# Altium footprint library diode.PCBLIB: 211 footprints (part 13 of 14)
Each footprint in its own frame and in the unit in brackets; x right, y up, seen from the top. Pads: shape width x height; smd on the part's side, far side on the other; paste and mask are expansions set on the pad; w line width, h text height; cw(c..) or ccw(c..) is an arc to the next point about the centre after c.
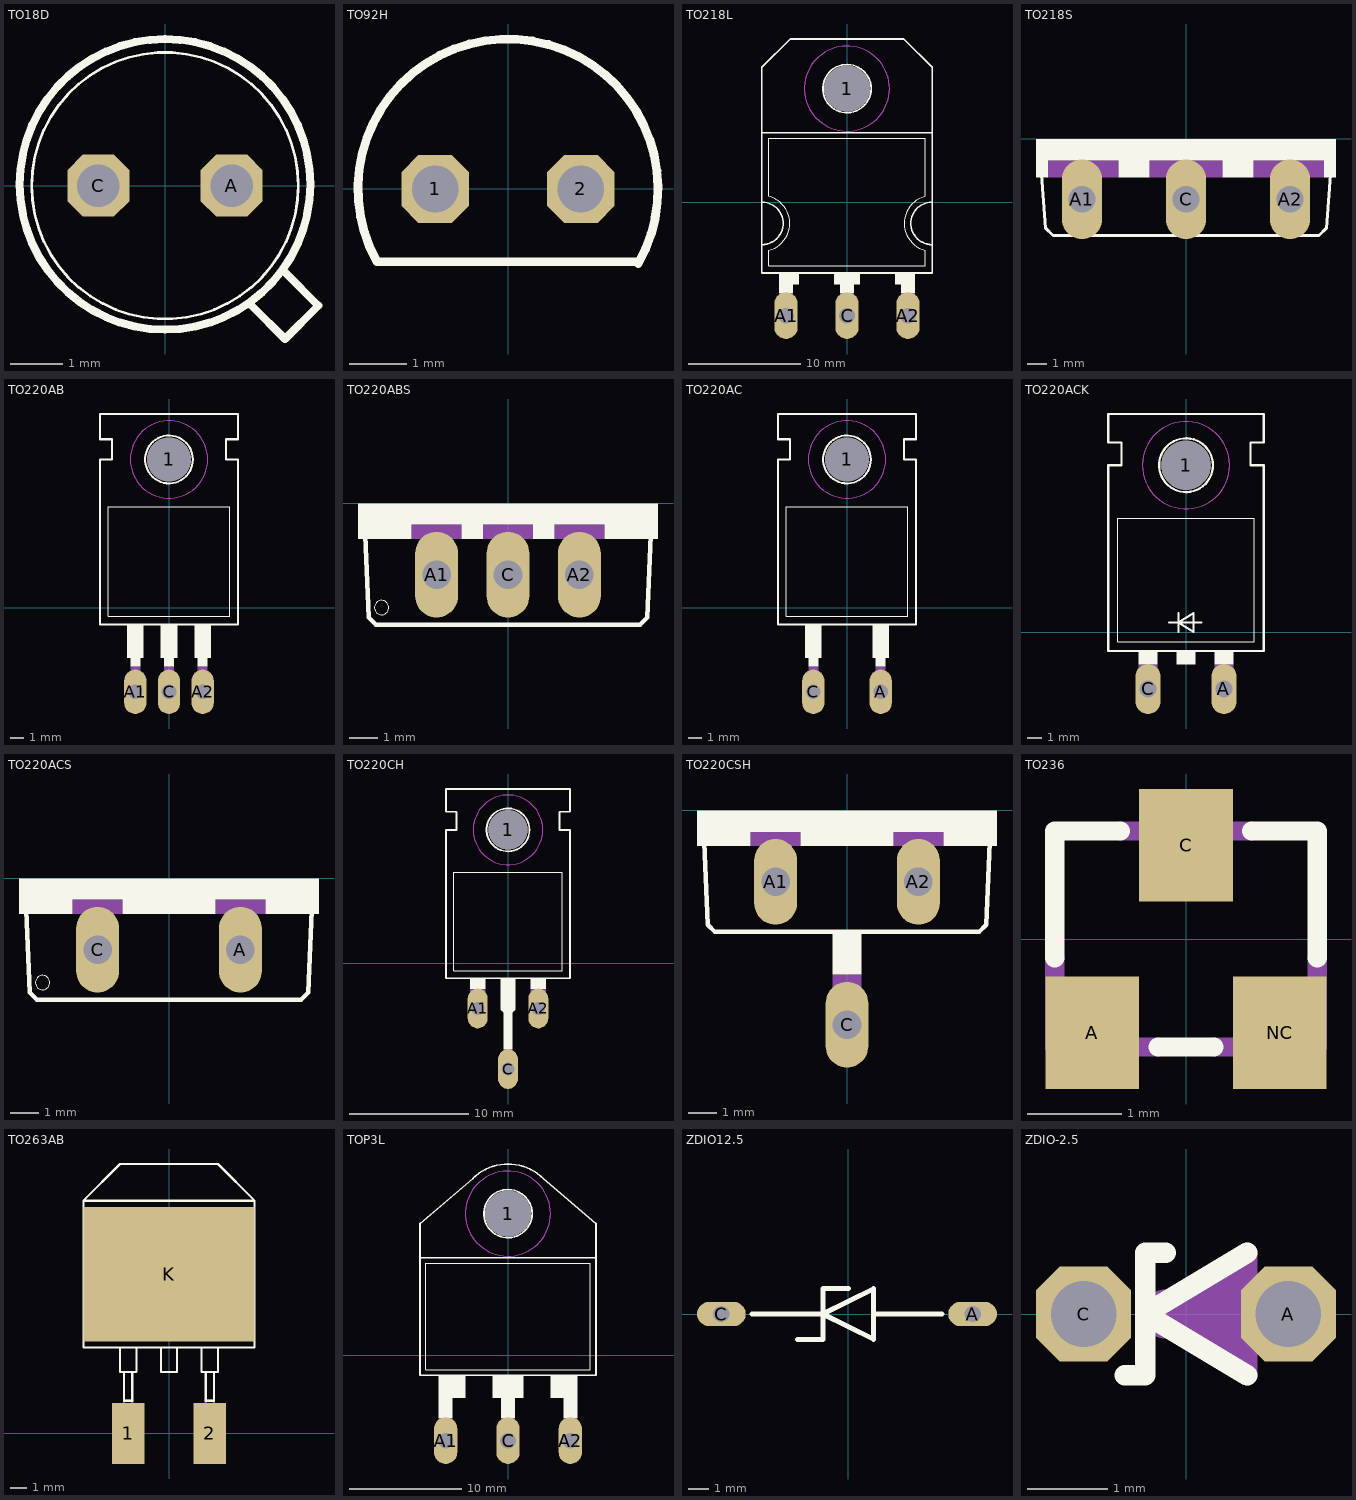
[diagram p12: the footprints below, top view; thin cyan lines are the x and y axes]

## TO18D [mil]
pads (2):
  oct 46.48x46.48 hole 32: A(50,0) C(-50,0)
Top Overlay:
  circle w2: c0,0 r100
  circle w6: c0,1 r109
  lines w6: 65,-90 90,-115 115,-90 90,-65

## TO92H [mil]
pads (2):
  oct 46.48x46.48 hole 32: 1(-50,0) 2(50,0)
Top Overlay:
  lines w6: 89.39,-51.08 ccw(c0,0) -90,-50 90,-50

## TO218L [mil]
pads (4):
  round 162 hole 162: 1(0,400)
  oval 82.5x165 hole 55: A1(-215,-400) A2(215,-400) C(0,-400)
Top Overlay:
  circle w6: c0,400 r85
  rectangle: -240,-290 -170,-250
  rectangle: 170,-290 240,-250
  rectangle: -45,-290 45,-250
  rectangle: -240,-320 -190,-250
  rectangle: -25,-320 25,-250
  rectangle: 190,-320 240,-250
  lines w2: 273.71,19.65 ccw(c300,-75) 275,-169.99 275,-225 -275,-225 -275,-170 ccw(c-300,-75) -275,20 -275,225 275,225 275,20
  lines w6: -300,-150 ccw(c-300,-75) -300,0 ; -300,-150 -300,-250 300,-250 300,-150 ; -300,-150 -300,0 ; -300,0 -300,245 ; -300,245 300,245 ; -300,245 -300,475 -200,575 200,575 300,475 300,245 ; 300,-150 cw(c300,-75) 300,0 ; 300,-150 300,0 ; 300,0 300,245
Mechanical 4:
  rectangle: -240,-405 -190,-320
  rectangle: -25,-405 25,-320
  rectangle: 190,-405 240,-320
Mechanical 11 keep-out:
  circle w0: c0,400 r150
Mechanical 12:
  circle w0: c0,400 r150

## TO218S [mil]
pads (3):
  oval 82.5x165 hole 55: A1(-215,-125) A2(215,-125) C(0,-125)
Top Overlay:
  rectangle: 285,-80 310,-45
  rectangle: -310,-80 -285,-45
  rectangle: 75,-80 140,-45
  rectangle: -140,-80 -75,-45
  rectangle: -310,-45 310,0
  lines w6: -300,-60 -290,-185 -275,-200 275,-200 290,-185 300,-60
Mechanical 4:
  rectangle: -75,-80 75,-45
  rectangle: -285,-80 -140,-45
  rectangle: 140,-80 285,-45

## TO220AB [mil]
pads (4):
  round 130 hole 130: 1(0,440)
  oval 66x132 hole 44: A1(-100,-250) A2(100,-250) C(0,-250)
Top Overlay:
  circle w6: c0,440 r71
  rectangle: 75,-150 125,-50
  rectangle: -25,-150 25,-50
  rectangle: -125,-150 -75,-50
  rectangle: -115,-175 -85,-150
  rectangle: -15,-175 15,-150
  rectangle: 85,-175 115,-150
  lines w2: -180,-25 -180,300 180,300 180,-25 -180,-25
  lines w6: -205,-50 -205,440 -170,440 -170,500 -205,500 -205,575 205,575 205,500 170,500 170,440 205,440 205,-50 -205,-50
Mechanical 4:
  rectangle: -115,-250 -85,-175
  rectangle: -15,-250 15,-175
  rectangle: 85,-250 115,-175
Mechanical 11 keep-out:
  circle w0: c0,440 r115
Mechanical 12:
  circle w0: c0,440 r115

## TO220ABS [mil]
pads (3):
  oval 60x120 hole 40: A1(-100,-100) A2(100,-100) C(0,-100)
Top Overlay:
  circle w0: c-177,-146 r10
  rectangle: 135,-50 210,-30
  rectangle: 35,-50 65,-30
  rectangle: -65,-50 -35,-30
  rectangle: -210,-50 -135,-30
  rectangle: -210,-30 210,0
  lines w6: -200,-45 -195,-160 -185,-170 185,-170 195,-160 200,-45
Mechanical 4:
  rectangle: 65,-50 135,-30
  rectangle: -35,-50 35,-30
  rectangle: -135,-50 -65,-30

## TO220AC [mil]
pads (3):
  round 130 hole 130: 1(0,440)
  oval 66x132 hole 44: A(100,-250) C(-100,-250)
Top Overlay:
  circle w6: c0,440 r71
  rectangle: 75,-150 125,-50
  rectangle: -125,-150 -75,-50
  rectangle: -115,-175 -85,-150
  rectangle: 85,-175 115,-150
  lines w2: -180,-25 -180,300 180,300 180,-25 -180,-25
  lines w6: -205,-50 -205,440 -170,440 -170,500 -205,500 -205,575 205,575 205,500 170,500 170,440 205,440 205,-50 -205,-50
Mechanical 4:
  rectangle: -115,-250 -85,-175
  rectangle: 85,-250 115,-175
Mechanical 11 keep-out:
  circle w0: c0,440 r115
Mechanical 12:
  circle w0: c0,440 r115

## TO220ACK [mil]
pads (3):
  round 130 hole 130: 1(0,440)
  oval 66x132 hole 44: A(100,-150) C(-100,-150)
Top Overlay:
  circle w6: c0,440 r71
  rectangle: -125,-85 -75,-50
  rectangle: 75,-85 125,-50
  rectangle: -25,-85 25,-50
  lines w2: -180,-25 180,-25 180,300 -180,300 -180,-25
  lines w6: -45,25 -20,25 ; -20,0 -20,25 ; -20,50 -20,25 ; 40,25 -20,25 ; -20,25 20,0 20,50 -20,25 ; -205,-50 205,-50 205,440 170,440 170,500 205,500 205,575 -205,575 -205,500 -170,500 -170,440 -205,440 -205,-50
Mechanical 4:
  rectangle: -125,-150 -75,-85
  rectangle: 75,-150 125,-85
Mechanical 11 keep-out:
  circle w0: c0,440 r115
Mechanical 12:
  circle w0: c0,440 r115

## TO220ACS [mil]
pads (2):
  oval 60x120 hole 40: A(100,-100) C(-100,-100)
Top Overlay:
  circle w0: c-177,-146 r10
  rectangle: -65,-50 65,-30
  rectangle: 135,-50 210,-30
  rectangle: -210,-50 -135,-30
  rectangle: -210,-30 210,0
  lines w6: -200,-45 -195,-160 -185,-170 185,-170 195,-160 200,-45
Mechanical 4:
  rectangle: 65,-50 135,-30
  rectangle: -135,-50 -65,-30

## TO220CH [mil]
pads (4):
  round 130 hole 130: 1(0,440)
  oval 66x132 hole 44: A1(-100,-150) A2(100,-150) C(0,-350)
Top Overlay:
  circle w6: c0,440 r71
  rectangle: -25,-155 25,-50
  rectangle: -15,-285 15,-155
  rectangle: 75,-85 125,-50
  rectangle: -125,-85 -75,-50
  lines w2: -180,-25 -180,300 180,300 180,-25 -180,-25
  lines w6: -205,-50 -205,440 -170,440 -170,500 -205,500 -205,575 205,575 205,500 170,500 170,440 205,440 205,-50 -205,-50
  lines w20: -15,-150 -10,-155 ; 10,-155 15,-150
Mechanical 4:
  rectangle: -15,-350 15,-285
  rectangle: 75,-150 125,-85
  rectangle: -125,-150 -75,-85
Mechanical 11 keep-out:
  circle w0: c0,440 r115
Mechanical 12:
  circle w0: c0,440 r115

## TO220CSH [mil]
pads (3):
  oval 60x120 hole 40: A1(-100,-100) A2(100,-100) C(0,-300)
Top Overlay:
  rectangle: -210,-30 210,0
  rectangle: -210,-50 -135,-30
  rectangle: 135,-50 210,-30
  rectangle: -20,-230 20,-170
  rectangle: -65,-50 65,-30
  lines w6: -200,-45 -195,-160 -185,-170 185,-170 195,-160 200,-45
Mechanical 4:
  rectangle: -135,-50 -65,-30
  rectangle: 65,-50 135,-30
  rectangle: -20,-300 20,-230

## TO236 [mm]
pads (3):
  rect 1x1.2 smd: A(-1,-1) C(0,1) NC(1,-1)
Top Overlay:
  lines w0.203: -1.4,-0.2 -1.4,1.15 -0.7,1.15 ; -0.3,-1.15 0.3,-1.15 ; 0.7,1.15 1.4,1.15 1.4,-0.2
Mechanical 4:
  rectangle: -0.2,0.6 0.2,1.25
  rectangle: -1.2,-1.25 -0.8,-0.6
  rectangle: 0.8,-1.25 1.2,-0.6
  lines w0.203: -1.4,-0.2 -1.4,-1.15 -0.3,-1.15 ; -0.7,1.15 0.7,1.15 ; 0.3,-1.15 1.4,-1.15 1.4,-0.2
3D body "CircuitWorks-SOT-23.step": height 1.06, standoff -0.04, extent -1.5,-1.25 1.5,1.25

## TO263AB [mil]
pads (3):
  rect 80x150 smd: 1(-100,0) 2(100,0)
  rect 420x330 smd: K(0,390)
Top Overlay:
  lines w5: -210,570 210,570 ; -210,570 -210,210 -120,210 ; -210,570 -120,660 120,660 210,570 ; -120,210 -80,210 ; -120,210 -120,150 -110,150 ; -110,150 -90,150 ; -110,150 -110,80 -90,80 -90,150 ; -90,150 -80,150 -80,210 ; -80,210 -20,210 ; -20,210 20,210 ; -20,210 -20,150 20,150 20,210 ; 20,210 80,210 ; 80,210 120,210 ; 80,210 80,150 90,150 ; 90,150 110,150 ; 90,150 90,80 110,80 110,150 ; 110,150 120,150 120,210 ; 120,210 210,210 210,570
Mechanical 4:
  lines w5: -190,230 190,230 190,550 -190,550 -190,230 ; -110,30 -110,80 -90,80 -90,30 -110,30 ; 90,30 90,80 110,80 110,30 90,30

## TOP3L [mil]
pads (4):
  round 162 hole 162: 1(0,500)
  oval 82.5x165 hole 55: A1(-220,-300) A2(220,-300) C(0,-300)
Top Overlay:
  circle w6: c0,500 r85
  rectangle: -245,-150 -150,-70
  rectangle: -55,-150 55,-70
  rectangle: 150,-150 245,-70
  rectangle: 195,-220 245,-150
  rectangle: -25,-220 25,-150
  rectangle: -245,-220 -195,-150
  lines w2: -290,-50 290,-50 290,325 -290,325 -290,-50
  lines w6: -123.74,623.74 cw(c0.01,500) 0,675 cw(c-0.01,500) 123.74,623.74 ; -123,624 -310,465 -310,345 ; 123,625 310,465 310,345 ; -310,345 -310,-70 310,-70 310,345 ; -310,345 310,345
Mechanical 4:
  rectangle: -245,-295 -195,-220
  rectangle: -25,-295 25,-220
  rectangle: 195,-295 245,-220
Mechanical 11 keep-out:
  circle w0: c0,500 r150
Mechanical 12:
  circle w0: c0,500 r150

## ZDIO12.5 [mil]
pads (2):
  oval 96x48 hole 32: A(245,0) C(-250,0)
Top Overlay:
  lines w10: -190,0 -50,0 ; -100,-50 -50,-50 -50,0 ; 0,50 -50,50 -50,0 ; 185,0 50,0 ; -50,0 50,-50 50,0 ; -50,0 50,50 50,0

## ZDIO-2.5 [mil]
pads (2):
  oct 46.48x46.48 hole 32: A(50,0) C(-50,0)
Top Overlay:
  lines w10: -30,-30 -20,-30 -20,0 ; -10,30 -20,30 -20,0 ; 30,-30 -20,0 ; 30,30 -20,0
Mechanical 4:
  lines w10: 30,-30 30,30
  lines w24: -10,0 20,0 ; 20,-10 20,0 ; 20,10 20,0